# EAGLE library part VL53L0X_(FEL) (library Komponenter)
VL53L0CXV0DH/1 - Gestdetekteringssensor, digital, 2 000 mm, LGA, 12 stift, 2,6 V, 3,5 V http://se.farnell.com/stmicroelectronics/vl53l0cxv0dh-1/gestdetektering-sensor-digital/dp/2762754?st=vl53l0x
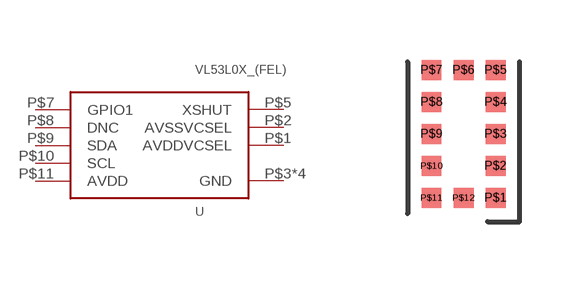
[diagram p2: symbol with the pads of VL53L0X; footprint VL53L0X]

Designator prefix -

## VL53L0X_(FEL)  [VL53L0X]
P$1  AVDDVCSEL  pwr
P$2  AVSSVCSEL  pwr
P$3  GND  pwr
P$4  GND  pwr
P$5  XSHUT
P$6  GND  pwr
P$7  GPIO1
P$8  DNC
P$9  SDA
P$10  SCL
P$11  AVDD  pwr
P$12  GND  pwr

## Footprint VL53L0X (pad centres in mm)
http://www.farnell.com/datasheets/2291222.pdf?_ga=2.115028359.1217998091.1525101249-1226611834.1521712813&_gac=1.161245007.1525170414.CjwKCAjwoKDXBRAAEiwA4xnqv8FUQwF06K3W99vqaxCGURmNMDTTEpAagSVZSJd_96VY1oTXs485IRoCYR0QAvD_BwE
smd 0.5 x 0.5: P$1 0.8,-1.6; P$2 0.8,-0.8; P$3 0.8,0; P$4 0.8,0.8; P$5 0.8,1.6; P$6 0,1.6; P$7 -0.8,1.6; P$8 -0.8,0.8; P$9 -0.8,0; P$10 -0.8,-0.8; P$11 -0.8,-1.6; P$12 0,-1.6